# Altium schematic symbol library Crys_NDK_NX2520SA-16MHZ-STD-CSW-4_eec.SchLib: 1 symbol
Pins are listed as number, name and electrical type; pins without a type are passive.

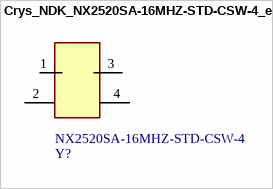
[diagram p0: symbol Crys_NDK_NX2520SA-16MHZ-STD-CSW-4_eec]

## Crys_NDK_NX2520SA-16MHZ-STD-CSW-4_eec
designator Y?  Part Number: NX2520SA-16MHZ-STD-CSW-4
CRYSTAL 16.0000MHZ 8PF SMD; Manufacturer: NDK; Frequency: 16MHz; helpURL: https://upverter.com/upn/revision/362732d6def5e20d/; ComponentLink2Description: Datasheet; Temperature: -10°C to +75°C; Package: SMD4; Supplier 2: Mouser; Price: 0.861780111689; Supplier 1: Digi-Key; ComponentLink1URL: https://upverter.com/upn/revision/362732d6def5e20d/; Supplier Part Number 1: 644-1168-1-ND; ComponentLink1Description: Upverter; ComponentLink2URL: http://www.ndk.com/images/products/catalog/c_NX2520SA-STD-CSW-4_e.pdf; RoHS: TRUE; Digikey Description: CRYSTAL 16.0000MHZ 8PF SMD; Digikey Part Number: 644-1168-1-ND; Lead Free: yes; Temperature Range High: +75°C; Temperature Range Low: -10°C
footprint NDK_NX2520SA-16MHZ-STD-CSW-4_0
pins: 1, 2 GND, 3, 4 GND